# EAGLE library part IC-IR2103 (library Namenlos)
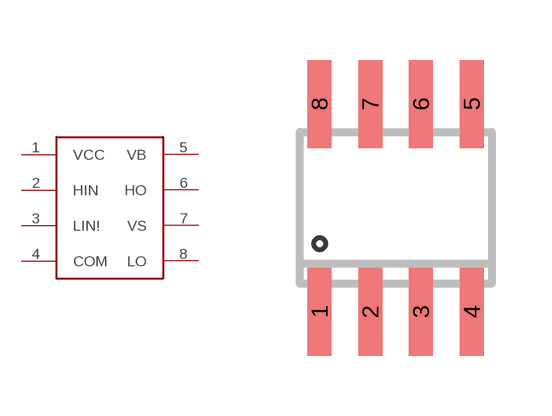
[diagram p36: symbol with the pads of SO8; footprint SO8]

Designator prefix IC-

## IC-IR2103  [SO8]
1  VCC
2  HIN
3  LIN!
4  COM
5  VB
6  HO
7  VS
8  LO

## Footprint SO8 (pad centres in mm)
smd 0.6 x 2.2: 1 -1.905,-2.6; 2 -0.635,-2.6; 3 0.635,-2.6; 4 1.905,-2.6; 5 1.905,2.6; 6 0.635,2.6; 7 -0.635,2.6; 8 -1.905,2.6